# EAGLE library part VOLTAGE_TRANSLATOR_4_BIT (library konekt)
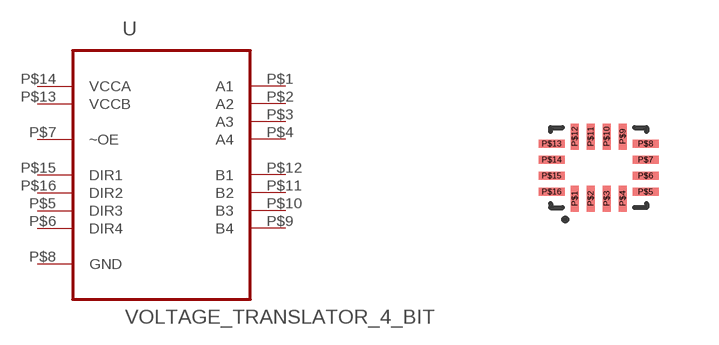
[diagram p6: symbol with the pads of UQFN_16; footprint UQFN_16]

Designator prefix U

## VOLTAGE_TRANSLATOR_4_BIT (MFG: TI; MPN: SN74AVC4T774RSVR; PACKAGE: UQFN_16)  [UQFN_16]
P$1  A1
P$2  A2
P$3  A3
P$4  A4
P$5  DIR3  in
P$6  DIR4  in
P$7  ~OE  in
P$8  GND  pas
P$9  B4
P$10  B3
P$11  B2
P$12  B1
P$13  VCCB  pwr
P$14  VCCA  pwr
P$15  DIR1  in
P$16  DIR2  in

## Footprint UQFN_16 (pad centres in mm)
smd 0.2 x 0.65: P$1 -0.6,-0.775; P$2 -0.2,-0.775; P$3 0.2,-0.775; P$4 0.6,-0.775; P$9 0.6,0.775; P$10 0.2,0.775; P$11 -0.2,0.775; P$12 -0.6,0.775
smd 0.65 x 0.2: P$5 1.175,-0.6; P$6 1.175,-0.2; P$7 1.175,0.2; P$8 1.175,0.6; P$13 -1.175,0.6; P$14 -1.175,0.2; P$15 -1.175,-0.2; P$16 -1.175,-0.6